# Altium footprint library RESC2113X85N.PcbLib: 1 footprints
Each footprint in its own frame and in the unit in brackets; x right, y up, seen from the top. Pads: shape width x height; smd on the part's side, far side on the other; paste and mask are expansions set on the pad; w line width, h text height; cw(c..) or ccw(c..) is an arc to the next point about the centre after c.
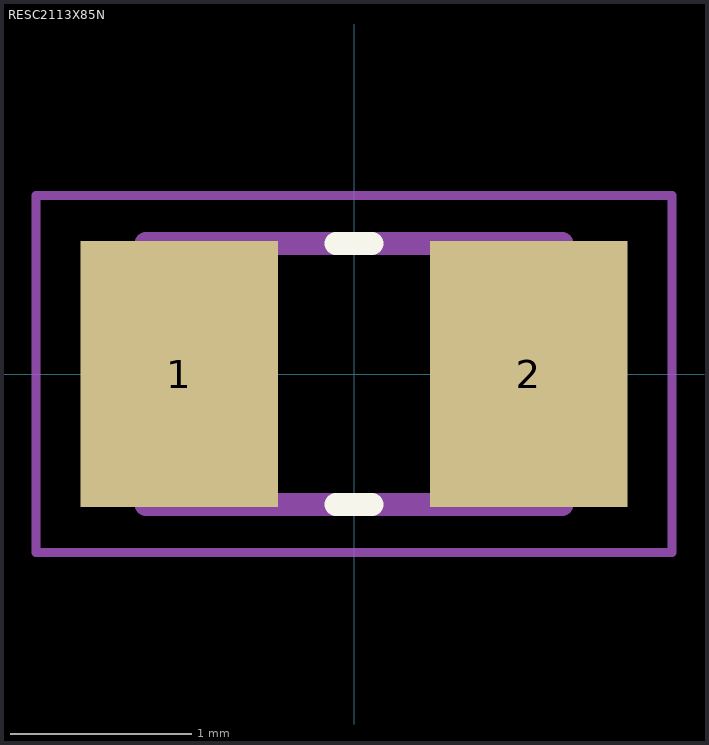
[diagram p0: the footprint, top view; thin cyan lines are the x and y axes]

## RESC2113X85N [mm]
pads (2):
  rect 1.09x1.47 smd: 1(-0.965,0) 2(0.965,0)
Top Overlay:
  lines w0.127: -0.1,-0.72 0.1,-0.72 ; -0.1,0.72 0.1,0.72
Mechanical 13:
  lines w0.127: -1.15,-0.72 -1.15,0.72 1.15,0.72 1.15,-0.72 -1.15,-0.72
Mechanical 15:
  lines w0.05: -1.758,-0.985 -1.758,0.985 1.758,0.985 1.758,-0.985 -1.758,-0.985
3D body "CSRF0805FT10L0--3DModel-STEP-1.STEP": height 0.85, standoff 0, extent -1.075,-0.65 1.025,0.65